# Altium schematic symbol library HEADER2X1.SchLib: 1 symbol
Pins are listed as number, name and electrical type; pins without a type are passive.

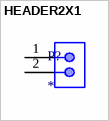
[diagram p0: symbol HEADER2X1]

## HEADER2X1
designator P?
pins: 1, 2